# EAGLE library part SD_SOCKET (library CDC Library v117)
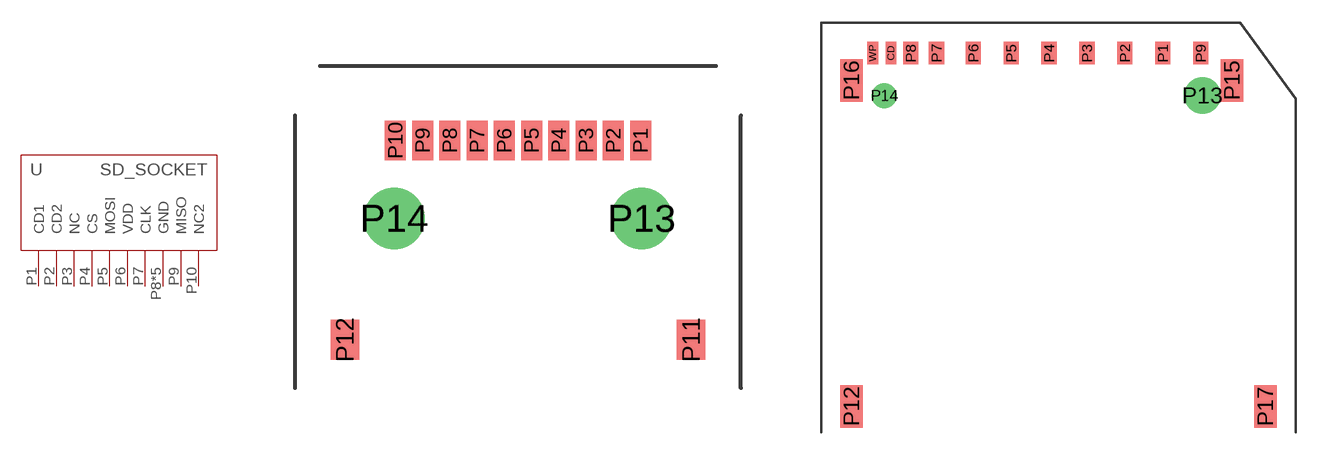
[diagram p6: symbol with the pads of SD_MICRO_SOCKET-204270; footprints SD_MICRO_SOCKET-204270, SD_CARD_SOCKET-794212]

Designator prefix -

## SD_SOCKET  [SD_MICRO_SOCKET-204270]
P1  CD1
P2  CD2
P3  NC  nc
P4  CS
P5  MOSI
P6  VDD
P7  CLK
P8  GND
P9  MISO
P10  NC2  nc
P11  GND
P12  GND
P13  GND
P14  GND

## SD_SOCKETSD_FULL  [SD_CARD_SOCKET-794212]
CD  CD1
P1  CS
P2  MOSI
P3  GND
P4  VDD
P5  CLK
P6  GND
P7  MISO
P8  NC2  nc
P9  NC  nc
P12  GND
P13  GND
P14  GND
P15  GND
P16  GND
P17  GND
WP  CD2

## Footprint SD_MICRO_SOCKET-204270 (pad centres in mm)
smd 0.85 x 1.6: P1 4.95,0; P2 3.85,0; P3 2.75,0; P4 1.65,0; P5 0.55,0; P6 -0.55,0; P7 -1.65,0; P8 -2.75,0; P9 -3.85,0; P10 -4.95,0
smd 1.15 x 1.6: P11 6.99,-8.05; P12 -6.99,-8.05
drill 1.65: P13 5,-3.15; P14 -5,-3.15

## Footprint SD_CARD_SOCKET-794212 (pad centres in mm)
smd 0.7 x 1.5: CD -11.05,0; WP -12.25,0
smd 1 x 1.5: P1 6.875,0; P2 4.375,0; P3 1.875,0; P4 -0.625,0; P5 -3.125,0; P6 -5.625,0; P7 -8.05,0; P8 -9.75,0; P9 9.375,0
smd 1.5 x 2.8: P12 -13.65,-23.3; P15 11.45,-1.8; P16 -13.65,-1.8; P17 13.65,-23.3
drill 1.6 pad 2: P13 9.5,-2.8
drill 1.1 pad 1.5: P14 -11.5,-2.8